# Altium integrated library RF-Switches.IntLib: 3 symbols
Pins are listed as number, name and electrical type; pins without a type are passive.

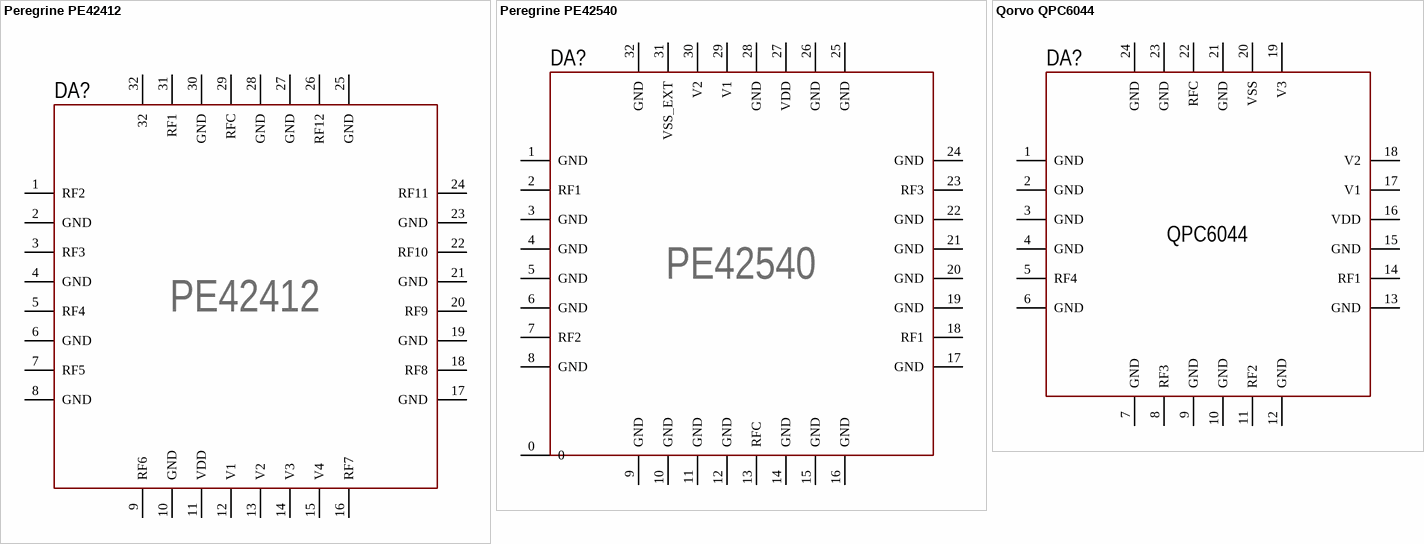
[diagram p0: symbols Peregrine PE42412 to Qorvo QPC6044]

## Peregrine PE42412
designator DA?, comment Part: PE42412  (hidden comment: PE42412A-X)
UltraCMOS® SP12T RF Switch, 10 MHz–8 GHz; Case: A-X
footprint QFN-32 (QFN, 32-Leads, Body 5.00x5.00mm, Pitch 0.50mm, Thermal Pad 3.10x3.10mm, IPC Medium Density)
pins: 0 hidden to GND, 1 RF2, 2 GND, 3 RF3, 4 GND, 5 RF4, 6 GND, 7 RF5, 8 GND, 9 RF6, 10 GND, 11 VDD, 12 V1, 13 V2, 14 V3, 15 V4, 16 RF7, 17 GND, 18 RF8, 19 GND, 20 RF9, 21 GND, 22 RF10, 23 GND, 24 RF11, 25 GND, 26 RF12, 27 GND, 28 GND, 29 RFC, 30 GND, 31 RF1, 32

## Peregrine PE42540
designator DA?, comment Part: PE42540  (hidden comment: PE42540F-Z)
UltraCMOS® SP4T RF Switch, 10 Hz–8 GHz; Case: F-Z
footprint LGA-32 (LGA, 32-Leads, Body 5.00x5.00mmx1.00mm, Pitch 0.50mm)
pins: 0 hidden to GND, 1 GND, 2 RF1, 3 GND, 4 GND, 5 GND, 6 GND, 7 RF2, 8 GND, 9 GND, 10 GND, 11 GND, 12 GND, 13 RFC, 14 GND, 15 GND, 16 GND, 17 GND, 18 RF1, 19 GND, 20 GND, 21 GND, 22 GND, 23 RF3, 24 GND, 25 GND, 26 GND, 27 VDD, 28 GND, 29 V1, 30 V2, 31 VSS_EXT, 32 GND

## Qorvo QPC6044
designator DA?, comment QPC6044
5MHz to 6GHz Absorptive High Isolation SP4T Switch
footprint QFN-24 (QFN, 24-Leads, Body 4.00x4.00mm, Pitch 0.50mm, Thermal Pad 2.70x2.70mm, IPC Medium Density)
pins: 0 hidden to GND, 1 GND, 2 GND, 3 GND, 4 GND, 5 RF4, 6 GND, 7 GND, 8 RF3, 9 GND, 10 GND, 11 RF2, 12 GND, 13 GND, 14 RF1, 15 GND, 16 VDD, 17 V1, 18 V2, 19 V3, 20 VSS, 21 GND, 22 RFC, 23 GND, 24 GND